# Altium footprint library Con Mod Jack PCB.PcbLib: 213 footprints (part 8 of 14)
Each footprint in its own frame and in the unit in brackets; x right, y up, seen from the top. Pads: shape width x height; smd on the part's side, far side on the other; paste and mask are expansions set on the pad; w line width, h text height; cw(c..) or ccw(c..) is an arc to the next point about the centre after c.
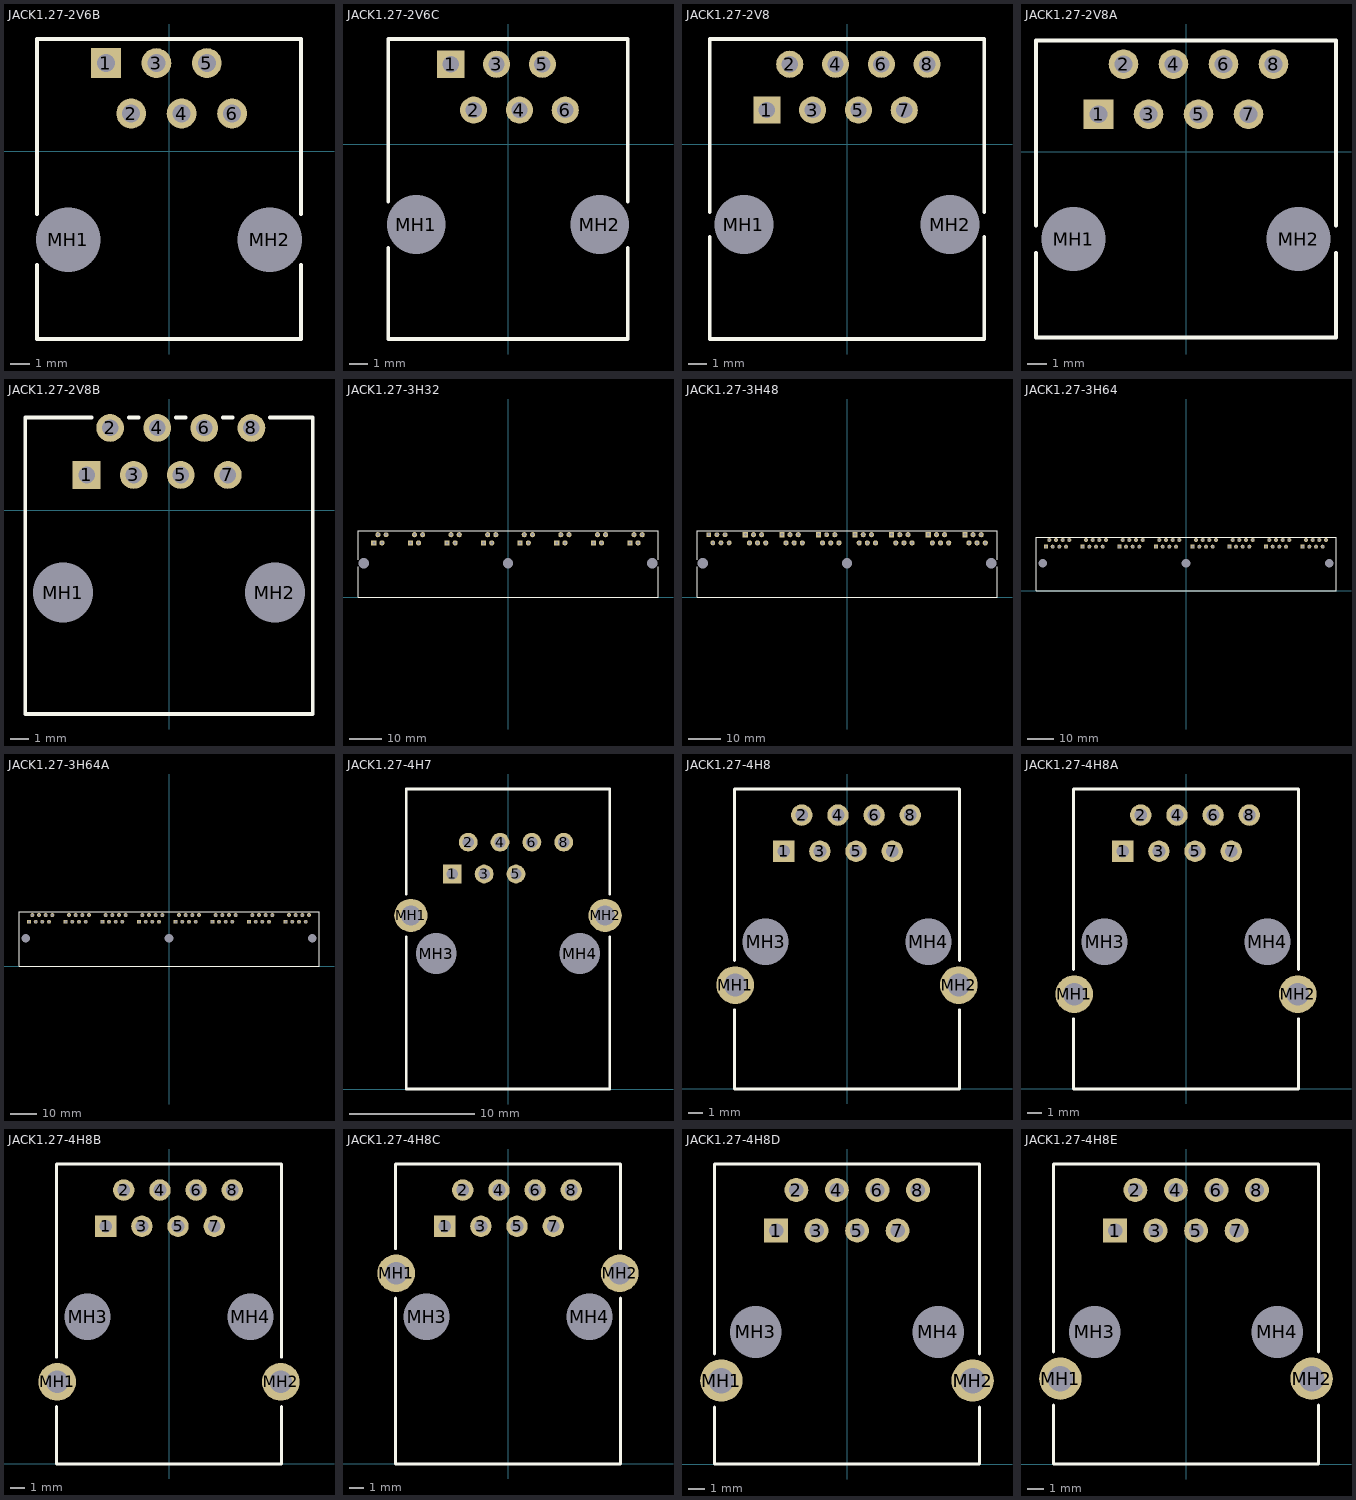
[diagram p7: the footprints below, top view; thin cyan lines are the x and y axes]

## JACK1.27-2V6B [mm] "Connector; PCB Jack, Thru-Hole; 1-Port, 6 Positions, 6 Loaded; Unshielded without Lightpipes; Vertical"
height 15.7
pads (8):
  rect 1.5x1.5 hole 0.9: 1(-3.175,4.445)
  round 1.5 hole 0.9: 2(-1.905,1.905) 3(-0.635,4.445) 4(0.635,1.905) 5(1.905,4.445) 6(3.175,1.905)
  round 2.95 hole 3.25 unplated: MH1(-5.08,-4.445) MH2(5.08,-4.445)
Top Overlay:
  lines w0.2: -6.65,-5.724 -6.65,-9.445 6.65,-9.445 6.65,-5.724 ; -6.65,-3.166 -6.65,5.655 6.65,5.655 6.65,-3.166

## JACK1.27-2V6C [mm] "Connector; PCB Jack, Thru-Hole; 1-Port, 6 Positions, 6 Loaded; Unshielded without Lightpipes; Vertical"
height 16.25
pads (8):
  rect 1.5x1.5 hole 0.9: 1(-3.175,4.445)
  round 1.5 hole 0.9: 2(-1.905,1.905) 3(-0.635,4.445) 4(0.635,1.905) 5(1.905,4.445) 6(3.175,1.905)
  round 2.95 hole 3.25 unplated: MH1(-5.08,-4.445) MH2(5.08,-4.445)
Top Overlay:
  lines w0.2: -6.65,-5.724 -6.65,-10.795 6.65,-10.795 6.65,-5.724 ; -6.65,-3.166 -6.65,5.845 6.65,5.845 6.65,-3.166

## JACK1.27-2V8 [mm] "Connector; PCB Jack, Thru-Hole; 1-Port, 8 Positions, 8 Loaded; Unshielded without Lightpipes; Vertical"
height 16.25
pads (10):
  rect 1.5x1.5 hole 0.9: 1(-4.445,1.905)
  round 1.5 hole 0.9: 2(-3.175,4.445) 3(-1.905,1.905) 4(-0.635,4.445) 5(0.635,1.905) 6(1.905,4.445) 7(3.175,1.905) 8(4.445,4.445)
  round 2.95 hole 3.25 unplated: MH1(-5.715,-4.445) MH2(5.715,-4.445)
Top Overlay:
  lines w0.2: -7.62,-5.132 -7.62,-10.795 7.62,-10.795 7.62,-5.132 ; -7.62,-3.758 -7.62,5.845 7.62,5.845 7.62,-3.758

## JACK1.27-2V8A [mm] "Connector; PCB Jack, Thru-Hole; 1-Port, 8 Positions, 8 Loaded; Unshielded without Lightpipes; Vertical"
height 15.7
pads (10):
  rect 1.5x1.5 hole 0.9: 1(-4.445,1.905)
  round 1.5 hole 0.9: 2(-3.175,4.445) 3(-1.905,1.905) 4(-0.635,4.445) 5(0.635,1.905) 6(1.905,4.445) 7(3.175,1.905) 8(4.445,4.445)
  round 2.95 hole 3.25 unplated: MH1(-5.715,-4.445) MH2(5.715,-4.445)
Top Overlay:
  lines w0.2: -7.62,-5.132 -7.62,-9.445 7.62,-9.445 7.62,-5.132 ; -7.62,-3.758 -7.62,5.655 7.62,5.655 7.62,-3.758

## JACK1.27-2V8B [mm] "Connector; PCB Jack, Thru-Hole; 1-Port, 8 Positions, 8 Loaded; Unshielded without Lightpipes; Vertical"
height 16.38
pads (10):
  rect 1.5x1.5 hole 0.9: 1(-4.445,1.905)
  round 1.5 hole 0.9: 2(-3.175,4.445) 3(-1.905,1.905) 4(-0.635,4.445) 5(0.635,1.905) 6(1.905,4.445) 7(3.175,1.905) 8(4.445,4.445)
  round 2.95 hole 3.25 unplated: MH1(-5.715,-4.445) MH2(5.715,-4.445)
Top Overlay:
  lines w0.2: -4.179,5.005 -7.75,5.005 -7.75,-10.995 7.75,-10.995 7.75,5.005 5.449,5.005 ; -2.171,5.005 -1.639,5.005 ; 0.369,5.005 0.901,5.005 ; 2.909,5.005 3.441,5.005

## JACK1.27-3H32 [mm] "Connector; PCB Jack, Thru-Hole; 8-Port, 6 Positions, 4 Loaded; Unshielded without Lightpipes; Right Angle"
height 12.83
pads (35):
  rect 1.6x1.6 hole 0.9: A1(-41.732,16.89) B1(-30.353,16.89) C1(-18.974,16.89) D1(-7.595,16.89) E1(3.785,16.89) F1(15.164,16.89) G1(26.543,16.89) H1(37.922,16.89)
  round 1.6 hole 0.9: A2(-40.462,19.43) A3(-39.192,16.89) B2(-29.083,19.43) B3(-27.813,16.89) B4(-26.543,19.43) C2(-17.704,19.43) C3(-16.434,16.89) C4(-15.164,19.43) D2(-6.325,19.43) D3(-5.055,16.89) D4(-3.785,19.43) E2(5.055,19.43) E3(6.325,16.89) E4(7.595,19.43) F2(16.434,19.43) F3(17.704,16.89) F4(18.974,19.43) G2(27.813,19.43) G3(29.083,16.89) G4(30.353,19.43) H2(39.192,19.43) H3(40.462,16.89) H4(41.732,19.43)
  round 1.5 hole 0.9: A4(-37.922,19.43)
  round 2.95 hole 3.25 unplated: MH1(-44.907,10.54) MH2(0,10.54) MH3(44.907,10.54)
Top Overlay:
  lines w0.2: -46.65,9.509 -46.65,0 46.65,0 46.65,9.509 ; -46.65,11.571 -46.65,20.63 46.65,20.63 46.65,11.571

## JACK1.27-3H48 [mm] "Connector; PCB Jack, Thru-Hole; 8-Port, 6 Positions, 6 Loaded; Unshielded without Lightpipes; Right Angle"
height 12.83
pads (51):
  rect 1.5x1.5 hole 0.9: A1(-43.002,19.43)
  round 1.5 hole 0.9: A2(-41.732,16.89) A3(-40.462,19.43) A4(-39.192,16.89) A5(-37.922,19.43) A6(-36.652,16.89) D3(-6.322,19.43)
  rect 1.6x1.6 hole 0.9: B1(-31.623,19.43) C1(-20.244,19.43) D1(-8.865,19.43) E1(2.515,19.43) F1(13.894,19.43) G1(25.273,19.43) H1(36.652,19.43)
  round 1.6 hole 0.9: B2(-30.353,16.89) B3(-29.083,19.43) B4(-27.813,16.89) B5(-26.543,19.43) B6(-25.273,16.89) C2(-18.974,16.89) C3(-17.704,19.43) C4(-16.434,16.89) C5(-15.164,19.43) C6(-13.894,16.89) D2(-7.595,16.89) D4(-5.055,16.89) D5(-3.785,19.43) D6(-2.515,16.89) E2(3.785,16.89) E3(5.055,19.43) E4(6.325,16.89) E5(7.595,19.43) E6(8.865,16.89) F2(15.164,16.89) F3(16.434,19.43) F4(17.704,16.89) F5(18.974,19.43) F6(20.244,16.89) G2(26.543,16.89) G3(27.813,19.43) G4(29.083,16.89) G5(30.353,19.43) G6(31.623,16.89) H2(37.922,16.89) H3(39.192,19.43) H4(40.462,16.89) H5(41.732,19.43) H6(43.002,16.89)
  round 2.95 hole 3.25 unplated: MH1(-44.907,10.54) MH2(0,10.54) MH3(44.907,10.54)
Top Overlay:
  lines w0.2: -46.65,9.509 -46.65,0 46.65,0 46.65,9.509 ; -46.65,11.571 -46.65,20.63 46.65,20.63 46.65,11.571

## JACK1.27-3H64 [mm] "Connector; PCB Jack, Thru-Hole; 8-Port, 8 Positions, 8 Loaded; Unshielded without Lightpipes; Right Angle"
height 12.83
pads (67):
  rect 1.5x1.5 hole 0.9: A1(-53.34,16.89) B1(-39.37,16.89) C1(-25.4,16.89) D1(-11.43,16.89) E1(2.54,16.89) F1(16.51,16.89) G1(30.48,16.89) H1(44.45,16.89)
  round 1.5 hole 0.9: A2(-52.07,19.43) A3(-50.8,16.89) A4(-49.53,19.43) A5(-48.26,16.89) A6(-46.99,19.43) A7(-45.72,16.89) A8(-44.45,19.43) B2(-38.1,19.43) B3(-36.83,16.89) B4(-35.56,19.43) B5(-34.29,16.89) B6(-33.02,19.43) B7(-31.75,16.89) B8(-30.48,19.43) C2(-24.13,19.43) C3(-22.86,16.89) C4(-21.59,19.43) C5(-20.32,16.89) C6(-19.05,19.43) C7(-17.78,16.89) C8(-16.51,19.43) D2(-10.16,19.43) D3(-8.89,16.89) D4(-7.62,19.43) D5(-6.35,16.89) D6(-5.08,19.43) D7(-3.81,16.89) D8(-2.54,19.43) E2(3.81,19.43) E3(5.08,16.89) E4(6.35,19.43) E5(7.62,16.89) E6(8.89,19.43) E7(10.16,16.89) E8(11.43,19.43) F2(17.78,19.43) F3(19.05,16.89) F4(20.32,19.43) F5(21.59,16.89) F6(22.86,19.43) F7(24.13,16.89) F8(25.4,19.43) G2(31.75,19.43) G3(33.02,16.89) G4(34.29,19.43) G5(35.56,16.89) G6(36.83,19.43) G7(38.1,16.89) G8(39.37,19.43) H2(45.72,19.43) H3(46.99,16.89) H4(48.26,19.43) H5(49.53,16.89) H6(50.8,19.43) H7(52.07,16.89) H8(53.34,19.43)
  round 2.95 hole 3.25 unplated: MH1(-54.61,10.54) MH2(0,10.54) MH3(54.61,10.54)
Top Overlay:
  lines w0.2: -57.15,0 -57.15,20.57 57.15,20.57 57.15,0 -57.15,0

## JACK1.27-3H64A [mm] "Connector; PCB Jack, Thru-Hole; 8-Port, 8 Positions, 8 Loaded; Unshielded without Lightpipes; Right Angle"
height 12.83
pads (67):
  rect 1.5x1.5 hole 0.9: A1(-53.34,16.89) B1(-39.37,16.89) C1(-25.4,16.89) D1(-11.43,16.89) E1(2.54,16.89) F1(16.51,16.89) G1(30.48,16.89) H1(44.45,16.89)
  round 1.5 hole 0.9: A2(-52.07,19.43) A3(-50.8,16.89) A4(-49.53,19.43) A5(-48.26,16.89) A6(-46.99,19.43) A7(-45.72,16.89) A8(-44.45,19.43) B2(-38.1,19.43) B3(-36.83,16.89) B4(-35.56,19.43) B5(-34.29,16.89) B6(-33.02,19.43) B7(-31.75,16.89) B8(-30.48,19.43) C2(-24.13,19.43) C3(-22.86,16.89) C4(-21.59,19.43) C5(-20.32,16.89) C6(-19.05,19.43) C7(-17.78,16.89) C8(-16.51,19.43) D2(-10.16,19.43) D3(-8.89,16.89) D4(-7.62,19.43) D5(-6.35,16.89) D6(-5.08,19.43) D7(-3.81,16.89) D8(-2.54,19.43) E2(3.81,19.43) E3(5.08,16.89) E4(6.35,19.43) E5(7.62,16.89) E6(8.89,19.43) E7(10.16,16.89) E8(11.43,19.43) F2(17.78,19.43) F3(19.05,16.89) F4(20.32,19.43) F5(21.59,16.89) F6(22.86,19.43) F7(24.13,16.89) F8(25.4,19.43) G2(31.75,19.43) G3(33.02,16.89) G4(34.29,19.43) G5(35.56,16.89) G6(36.83,19.43) G7(38.1,16.89) G8(39.37,19.43) H2(45.72,19.43) H3(46.99,16.89) H4(48.26,19.43) H5(49.53,16.89) H6(50.8,19.43) H7(52.07,16.89) H8(53.34,19.43)
  round 2.95 hole 3.25 unplated: MH1(-54.61,10.54) MH2(0,10.54) MH3(54.61,10.54)
Top Overlay:
  lines w0.2: -57.15,0 57.15,0 57.15,20.63 -57.15,20.63 -57.15,0

## JACK1.27-4H7 [mm] "Connector; PCB Jack, Thru-Hole; 1-Port, 8 Positions, 8 Loaded; Shielded without Lightpipes; Right Angle"
height 13.6
pads (11):
  rect 1.5x1.5 hole 0.9: 1(-4.445,17.15)
  round 1.5 hole 0.9: 2(-3.175,19.69) 3(-1.905,17.15) 4(-0.635,19.69) 5(0.635,17.15) 6(1.905,19.69) 8(4.445,19.69)
  round 2.65 hole 1.6: MH1(-7.75,13.85) MH2(7.75,13.85)
  round 2.95 hole 3.25 unplated: MH3(-5.715,10.8) MH4(5.715,10.8)
Top Overlay:
  lines w0.2: -8.1,12.161 -8.1,0 8.1,0 8.1,12.161 ; -8.1,15.539 -8.1,23.93 8.1,23.93 8.1,15.539

## JACK1.27-4H8 [mm] "Connector; PCB Jack, Thru-Hole; 1-Port, 8 Positions, 8 Loaded; Shielded without Lightpipes; Right Angle"
height 13.08
pads (12):
  rect 1.5x1.5 hole 0.9: 1(-4.445,16.69)
  round 1.5 hole 0.9: 2(-3.175,19.23) 3(-1.905,16.69) 4(-0.635,19.23) 5(0.635,16.69) 6(1.905,19.23) 7(3.175,16.69) 8(4.445,19.23)
  round 2.65 hole 1.6: MH1(-7.849,7.292) MH2(7.849,7.292)
  round 2.95 hole 3.25 unplated: MH3(-5.715,10.34) MH4(5.715,10.34)
Top Overlay:
  lines w0.2: -7.9,5.568 -7.9,0 7.9,0 7.9,5.568 ; -7.9,9.016 -7.9,21.06 7.9,21.06 7.9,9.016

## JACK1.27-4H8A [mm] "Connector; PCB Jack, Thru-Hole; 1-Port, 8 Positions, 8 Loaded; Shielded without Lightpipes; Right Angle"
height 13.08
pads (12):
  rect 1.5x1.5 hole 0.9: 1(-4.445,16.69)
  round 1.5 hole 0.9: 2(-3.175,19.23) 3(-1.905,16.69) 4(-0.635,19.23) 5(0.635,16.69) 6(1.905,19.23) 7(3.175,16.69) 8(4.445,19.23)
  round 2.65 hole 1.6: MH1(-7.849,6.657) MH2(7.849,6.657)
  round 2.95 hole 3.25 unplated: MH3(-5.715,10.34) MH4(5.715,10.34)
Top Overlay:
  lines w0.2: -7.9,4.933 -7.9,0 7.9,0 7.9,4.933 ; -7.9,8.381 -7.9,21.06 7.9,21.06 7.9,8.381

## JACK1.27-4H8B [mm] "Connector; PCB Jack, Thru-Hole; 1-Port, 8 Positions, 8 Loaded; Shielded without Lightpipes; Right Angle"
height 13.08
pads (12):
  rect 1.5x1.5 hole 0.9: 1(-4.445,16.69)
  round 1.5 hole 0.9: 2(-3.175,19.23) 3(-1.905,16.69) 4(-0.635,19.23) 5(0.635,16.69) 6(1.905,19.23) 7(3.175,16.69) 8(4.445,19.23)
  round 2.65 hole 1.6: MH1(-7.849,5.768) MH2(7.849,5.768)
  round 2.95 hole 3.25 unplated: MH3(-5.715,10.34) MH4(5.715,10.34)
Top Overlay:
  lines w0.2: -7.9,4.044 -7.9,0 7.9,0 7.9,4.044 ; -7.9,7.492 -7.9,21.06 7.9,21.06 7.9,7.492

## JACK1.27-4H8C [mm] "Connector; PCB Jack, Thru-Hole; 1-Port, 8 Positions, 8 Loaded; Shielded without Lightpipes; Right Angle"
height 13.08
pads (12):
  rect 1.5x1.5 hole 0.9: 1(-4.445,16.69)
  round 1.5 hole 0.9: 2(-3.175,19.23) 3(-1.905,16.69) 4(-0.635,19.23) 5(0.635,16.69) 6(1.905,19.23) 7(3.175,16.69) 8(4.445,19.23)
  round 2.65 hole 1.6: MH1(-7.849,13.388) MH2(7.849,13.388)
  round 2.95 hole 3.25 unplated: MH3(-5.715,10.34) MH4(5.715,10.34)
Top Overlay:
  lines w0.2: -7.9,11.664 -7.9,0 7.9,0 7.9,11.664 ; -7.9,15.112 -7.9,21.06 7.9,21.06 7.9,15.112

## JACK1.27-4H8D [mm] "Connector; PCB Jack, Thru-Hole; 1-Port, 8 Positions, 8 Loaded; Shielded without Lightpipes; Right Angle"
height 13.35
pads (12):
  rect 1.5x1.5 hole 0.9: 1(-4.445,14.63)
  round 1.5 hole 0.9: 2(-3.175,17.17) 3(-1.905,14.63) 4(-0.635,17.17) 5(0.635,14.63) 6(1.905,17.17) 7(3.175,14.63) 8(4.445,17.17)
  round 2.65 hole 1.6: MH1(-7.875,5.23) MH2(7.875,5.23)
  round 2.95 hole 3.25 unplated: MH3(-5.715,8.28) MH4(5.715,8.28)
Top Overlay:
  lines w0.2: -8.3,3.558 -8.3,0 8.3,0 8.3,3.558 ; -8.3,6.902 -8.3,18.8 8.3,18.8 8.3,6.902

## JACK1.27-4H8E [mm] "Connector; PCB Jack, Thru-Hole; 1-Port, 8 Positions, 8 Loaded; Shielded without Lightpipes; Right Angle"
height 13.25
pads (12):
  rect 1.5x1.5 hole 0.9: 1(-4.445,14.63)
  round 1.5 hole 0.9: 2(-3.175,17.17) 3(-1.905,14.63) 4(-0.635,17.17) 5(0.635,14.63) 6(1.905,17.17) 7(3.175,14.63) 8(4.445,17.17)
  round 2.65 hole 1.6: MH1(-7.875,5.35) MH2(7.875,5.35)
  round 2.95 hole 3.25 unplated: MH3(-5.715,8.28) MH4(5.715,8.28)
Top Overlay:
  lines w0.2: -8.3,3.678 -8.3,0 8.3,0 8.3,3.678 ; -8.3,7.022 -8.3,18.8 8.3,18.8 8.3,7.022